# Altium footprint library Capacitor.PcbLib: 38 footprints (part 3 of 3)
Each footprint in its own frame and in the unit in brackets; x right, y up, seen from the top. Pads: shape width x height; smd on the part's side, far side on the other; paste and mask are expansions set on the pad; w line width, h text height; cw(c..) or ccw(c..) is an arc to the next point about the centre after c.
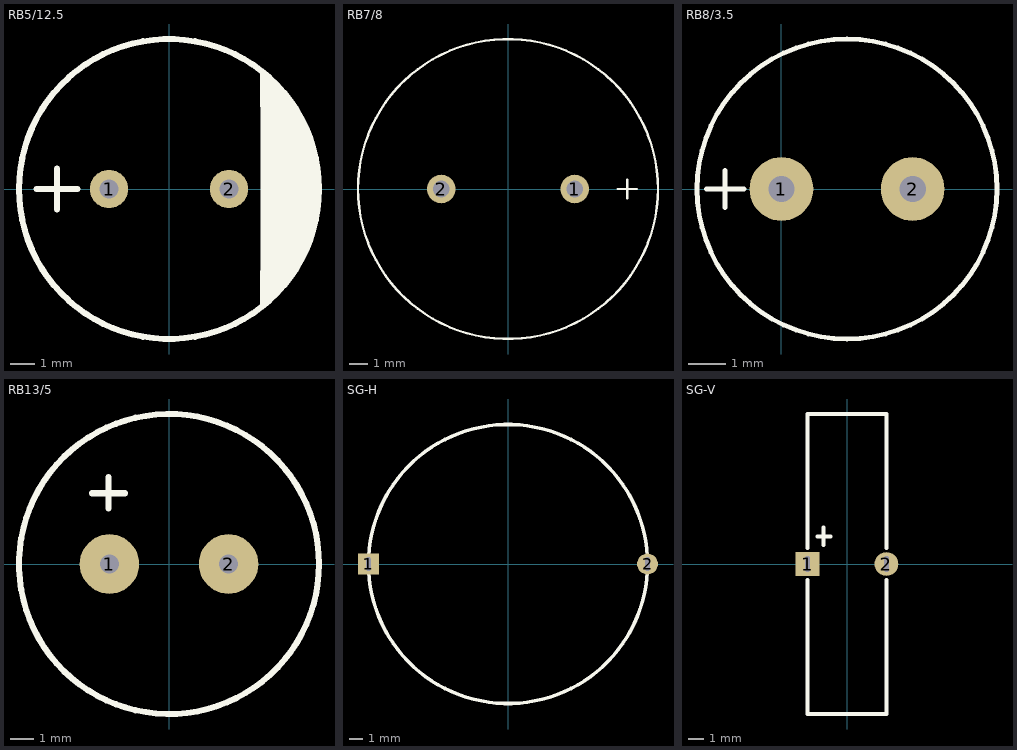
[diagram p2: the footprints below, top view; thin cyan lines are the x and y axes]

## RB5/12.5 [mm] "铝电解电容"
height 25
pads (2):
  round 1.6 hole 0.8: 1(-2.5,0) 2(2.5,0)
Top Overlay:
  circle w0.254: c0,0 r6.25
  rectangle: 5.156,-2.007 5.969,2.032
  rectangle: 3.81,-3.404 5.232,3.429
  region: 3.81,-3.404 5.232,-3.404 3.81,-4.902
  region: 3.81,3.429 3.81,4.877 5.156,3.531 5.156,3.353
  region: 5.969,1.448 5.969,-1.372 6.248,-1.092 6.248,0.254
  region: 5.232,-3.404 5.232,-2.083 5.156,-2.007 5.969,-2.007
  region: 5.232,3.429 5.156,3.353 5.156,2.032 5.969,2.032
  lines w0.254: -5.512,0 -3.81,0 ; -4.661,-0.851 -4.661,0.851

## RB7/8 [mil]
pads (2):
  round 60 hole 35: 1(140,0) 2(-140,0)
Top Overlay:
  circle w5: c0,0 r314.96
  lines w5: 230,0 270,0 ; 250,-20 250,20

## RB8/3.5 [mm]
height 12
pads (2):
  round 1.7 hole 0.7: 1(0,0) 2(3.5,0)
Top Overlay:
  circle w0.127: c1.75,0 r4
  lines w0.127: -2,0 -1,0 ; -1.5,-0.5 -1.5,0.5

## RB13/5 [mm]
height 20
pads (2):
  round 2.5 hole 0.8: 1(-2.5,0) 2(2.5,0)
Top Overlay:
  circle w0.254: c0,0 r6.3
  lines w0.254: -3.226,2.972 -1.854,2.972 ; -2.54,2.337 -2.54,3.658

## SG-H [mm] "For Pansonic Goldcap"
height 6
pads (2):
  rect 1.5x1.5 hole 0.3 slot 1 at 90 deg mask+0.5: 1(-10,0)
  round 1.5 hole 0.3 slot 1 at 90 deg mask+0.5: 2(10,0)
Top Overlay:
  circle w0.254: c0,0 r10

## SG-V [mm] "For Pansonic Goldcap"
height 20
pads (2):
  rect 1.5x1.5 hole 0.3 slot 1 at 90 deg mask+0.5: 1(-2.5,0)
  round 1.5 hole 0.3 slot 1 at 90 deg mask+0.5: 2(2.5,0)
Top Overlay:
  lines w0.254: -2.5,-1 -2.5,-9.5 2.5,-9.5 2.5,-1 ; -2.5,1 -2.5,9.5 2.5,9.5 2.5,1 ; -1.88,1.727 -1.041,1.727 ; -1.473,1.194 -1.473,2.311